# EAGLE library part IM06DGR (library HomeMade)
relay
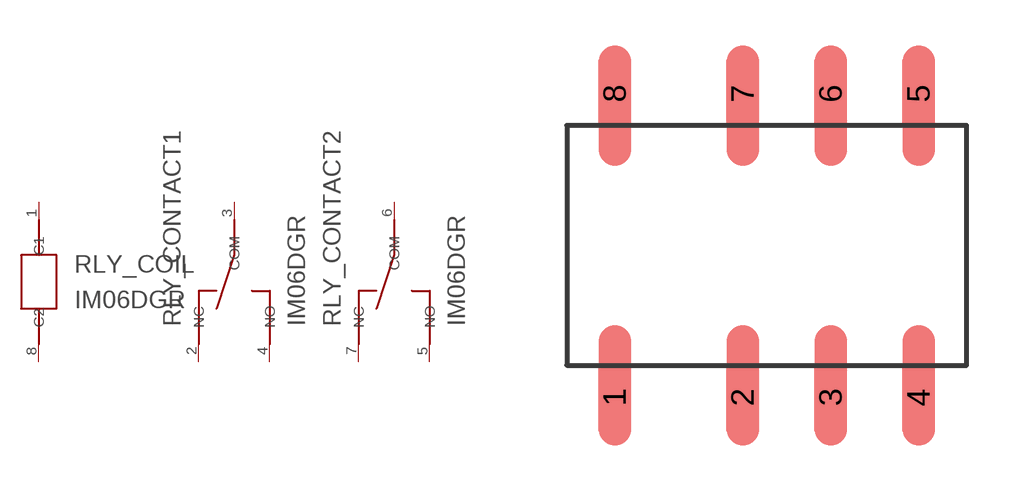
[diagram p10: symbol with the pads of IMXXXGX; footprint IMXXXGX]

Designator prefix RLY; gates _COIL=IM06DGR_COIL _CONTACT1=IM06DGR_CONTACT _CONTACT2=IM06DGR_CONTACT

## IM06DGR  [IMXXXGX]
1  _COIL:C1  pwr
2  _CONTACT1:NC
3  _CONTACT1:COM
4  _CONTACT1:NO
5  _CONTACT2:NO
6  _CONTACT2:COM
7  _CONTACT2:NC
8  _COIL:C2  pwr

## Footprint IMXXXGX (pad centres in mm)
smd 0.813 x 1.676: 1 1.2,-0.8; 2 4.4,-0.8; 3 6.6,-0.8; 4 8.8,-0.8; 5 8.8,6.8; 6 6.6,6.8; 7 4.4,6.8; 8 1.2,6.8